# EAGLE library part MAX7219CNG+ (library MAX7219CNG+)
8-digit LED display driver,MAX7219CNG,BP MAX7219CNG+, LED Driver, 8-Digits 64-Segments, 5 V, 24-Pin PDIP N Source: Datasheet <http://datasheets.maximintegrated.com/en/ds/MAX7219-MAX7221.pdf>
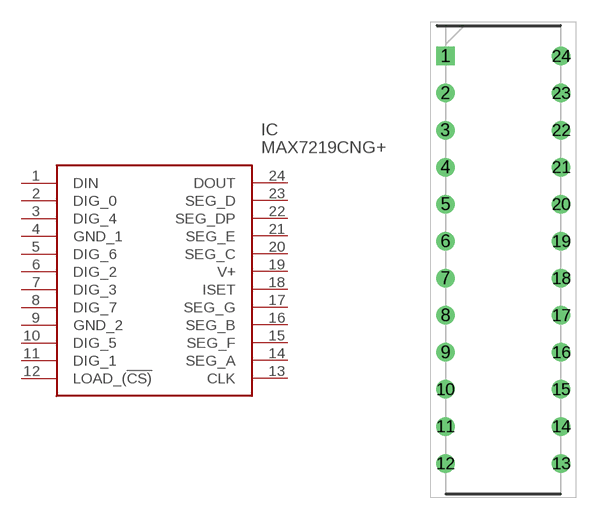
[diagram p0: symbol with the pads of DIP794W56P254L3054H457Q24N; footprint DIP794W56P254L3054H457Q24N]

Designator prefix IC

## MAX7219CNG+ (Description: 8-digit LED display driver,MAX7219CNG,BP MAX7219CNG+, LED Driver, 8-Digits 64-Segments, 5 V, 24-Pin PDIP N; Height: 4.572mm; Manufacturer_Name: Maxim Integrated; Manufacturer_Part_Number: MAX7219CNG+; Mouser_Part_Number: 700-MAX7219CNG; Mouser_Price-Stock: https://www.mouser.co.uk/ProductDetail/Maxim-Integrated/MAX7219CNG%2b?qs=1THa7WoU59Gme2Z0GeVXUQ%3D%3D)  [DIP794W56P254L3054H457Q24N]
1  DIN
2  DIG_0
3  DIG_4
4  GND_1
5  DIG_6
6  DIG_2
7  DIG_3
8  DIG_7
9  GND_2
10  DIG_5
11  DIG_1
12  LOAD_(!CS)
13  CLK
14  SEG_A
15  SEG_F
16  SEG_B
17  SEG_G
18  ISET
19  V+
20  SEG_C
21  SEG_E
22  SEG_DP
23  SEG_D
24  DOUT

## Footprint DIP794W56P254L3054H457Q24N (pad centres in mm)
24-Pin PDIP N
drill 0.76 pad 1.16 square: 1 -3.97,13.97
drill 0.76 pad 1.16: 2 -3.97,11.43; 3 -3.97,8.89; 4 -3.97,6.35; 5 -3.97,3.81; 6 -3.97,1.27; 7 -3.97,-1.27; 8 -3.97,-3.81; 9 -3.97,-6.35; 10 -3.97,-8.89; 11 -3.97,-11.43; 12 -3.97,-13.97; 13 3.97,-13.97; 14 3.97,-11.43; 15 3.97,-8.89; 16 3.97,-6.35; 17 3.97,-3.81; 18 3.97,-1.27; 19 3.97,1.27; 20 3.97,3.81; 21 3.97,6.35; 22 3.97,8.89; 23 3.97,11.43; 24 3.97,13.97